# Altium footprint library SMD_BD5.6-L5.6-W5.6-D3.6.PcbLib: 1 footprints
Each footprint in its own frame and in the unit in brackets; x right, y up, seen from the top. Pads: shape width x height; smd on the part's side, far side on the other; paste and mask are expansions set on the pad; w line width, h text height; cw(c..) or ccw(c..) is an arc to the next point about the centre after c.
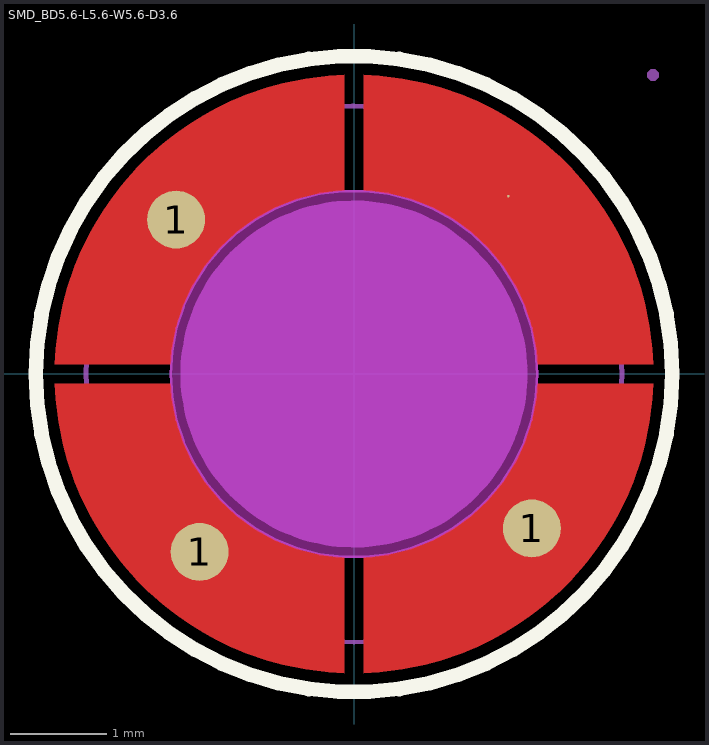
[diagram p0: the footprint, top view; thin cyan lines are the x and y axes]

## SMD_BD5.6-L5.6-W5.6-D3.6 [mm]
pads (4):
  round 0.6 smd: 1(-1.844,1.6) 1(-1.6,-1.844) 1(1.844,-1.6)
  round 0.025 smd: 1(1.6,1.844)
Top Layer:
  region: 0.1,-3.1 0.1,-1.9 0.163,-1.896 0.226,-1.889 0.289,-1.881 0.352,-1.87 0.414,-1.858 0.475,-1.843 0.536,-1.826 0.597,-1.807 0.657,-1.786 0.716,-1.764 0.774,-1.739 0.832,-1.712 0.888,-1.683 0.944,-1.653 0.998,-1.621 1.052,-1.587 1.104,-1.551 1.155,-1.513 1.205,-1.474 1.253,-1.433 1.3,-1.39 1.346,-1.346 1.39,-1.301 1.433,-1.254 1.473,-1.205 1.513,-1.155 1.55,-1.104 1.586,-1.052 1.62,-0.999 1.653,-0.944 1.683,-0.889 1.712,-0.832 1.739,-0.775 1.763,-0.716 1.786,-0.657 1.807,-0.597 1.826,-0.537 1.843,-0.476 1.857,-0.414 1.87,-0.352 1.881,-0.289 1.889,-0.226 1.896,-0.163 1.9,-0.1 3.1,-0.1 3.096,-0.181 3.091,-0.261 3.083,-0.341 3.073,-0.421 3.061,-0.501 3.047,-0.58 3.031,-0.659 3.013,-0.738 2.993,-0.816 2.971,-0.893 2.946,-0.97 2.92,-1.046 2.892,-1.122 2.862,-1.196 2.83,-1.27 2.796,-1.343 2.76,-1.415 2.723,-1.487 2.683,-1.557 2.642,-1.626 2.599,-1.694 2.554,-1.761 2.507,-1.827 2.459,-1.891 2.409,-1.954 2.358,-2.016 2.304,-2.077 2.25,-2.136 2.194,-2.194 2.136,-2.25 2.077,-2.305 2.016,-2.358 1.954,-2.409 1.891,-2.459 1.827,-2.508 1.761,-2.554 1.694,-2.599 1.626,-2.642 1.557,-2.683 1.486,-2.723 1.415,-2.761 1.343,-2.796 1.27,-2.83 1.196,-2.862 1.121,-2.892 1.046,-2.921 0.97,-2.947 0.893,-2.971 0.815,-2.993 0.737,-3.013 0.659,-3.031 0.58,-3.047 0.501,-3.061 0.421,-3.073 0.341,-3.083 0.261,-3.091 0.18,-3.097
  region: -3.1,-0.1 -1.9,-0.1 -1.896,-0.163 -1.889,-0.226 -1.881,-0.289 -1.87,-0.352 -1.858,-0.414 -1.843,-0.475 -1.826,-0.536 -1.807,-0.597 -1.786,-0.657 -1.764,-0.716 -1.739,-0.774 -1.712,-0.832 -1.683,-0.888 -1.653,-0.944 -1.621,-0.999 -1.586,-1.052 -1.551,-1.104 -1.513,-1.155 -1.474,-1.205 -1.433,-1.253 -1.39,-1.3 -1.346,-1.346 -1.301,-1.39 -1.254,-1.433 -1.205,-1.474 -1.155,-1.513 -1.104,-1.55 -1.052,-1.586 -0.999,-1.62 -0.944,-1.653 -0.889,-1.683 -0.832,-1.712 -0.775,-1.739 -0.716,-1.763 -0.657,-1.786 -0.597,-1.807 -0.537,-1.826 -0.476,-1.843 -0.414,-1.857 -0.352,-1.87 -0.289,-1.881 -0.226,-1.889 -0.163,-1.896 -0.1,-1.9 -0.1,-3.1 -0.181,-3.096 -0.261,-3.091 -0.341,-3.083 -0.421,-3.073 -0.501,-3.061 -0.58,-3.047 -0.659,-3.031 -0.738,-3.013 -0.816,-2.993 -0.893,-2.971 -0.97,-2.946 -1.046,-2.92 -1.122,-2.892 -1.196,-2.862 -1.27,-2.83 -1.343,-2.796 -1.415,-2.76 -1.487,-2.723 -1.557,-2.683 -1.626,-2.642 -1.694,-2.599 -1.761,-2.554 -1.827,-2.507 -1.891,-2.459 -1.954,-2.409 -2.016,-2.358 -2.077,-2.304 -2.136,-2.25 -2.194,-2.194 -2.25,-2.136 -2.305,-2.077 -2.358,-2.016 -2.409,-1.954 -2.459,-1.891 -2.508,-1.827 -2.554,-1.761 -2.599,-1.694 -2.642,-1.626 -2.683,-1.557 -2.723,-1.486 -2.761,-1.415 -2.796,-1.343 -2.83,-1.27 -2.862,-1.196 -2.892,-1.121 -2.92,-1.046 -2.947,-0.97 -2.971,-0.893 -2.993,-0.815 -3.013,-0.737 -3.031,-0.659 -3.047,-0.58 -3.061,-0.501 -3.073,-0.421 -3.083,-0.341 -3.091,-0.261 -3.097,-0.18
  region: -0.1,3.1 -0.1,1.9 -0.163,1.896 -0.226,1.889 -0.289,1.881 -0.352,1.87 -0.414,1.857 -0.475,1.843 -0.536,1.826 -0.597,1.807 -0.657,1.786 -0.716,1.763 -0.774,1.739 -0.832,1.712 -0.888,1.683 -0.944,1.653 -0.999,1.62 -1.052,1.586 -1.104,1.55 -1.155,1.513 -1.205,1.474 -1.253,1.433 -1.3,1.39 -1.346,1.346 -1.39,1.3 -1.433,1.253 -1.474,1.205 -1.513,1.155 -1.55,1.104 -1.586,1.052 -1.62,0.999 -1.653,0.944 -1.683,0.888 -1.712,0.832 -1.739,0.774 -1.763,0.716 -1.786,0.657 -1.807,0.597 -1.826,0.537 -1.843,0.475 -1.857,0.414 -1.87,0.352 -1.881,0.289 -1.889,0.226 -1.896,0.163 -1.9,0.1 -3.1,0.1 -3.096,0.18 -3.091,0.261 -3.083,0.341 -3.073,0.421 -3.061,0.501 -3.047,0.58 -3.031,0.659 -3.013,0.737 -2.993,0.815 -2.971,0.893 -2.947,0.97 -2.92,1.046 -2.892,1.121 -2.862,1.196 -2.83,1.27 -2.796,1.343 -2.76,1.415 -2.723,1.487 -2.683,1.557 -2.642,1.626 -2.599,1.694 -2.554,1.761 -2.507,1.827 -2.459,1.891 -2.409,1.954 -2.358,2.016 -2.305,2.077 -2.25,2.136 -2.194,2.194 -2.136,2.25 -2.077,2.305 -2.016,2.358 -1.954,2.409 -1.891,2.459 -1.827,2.507 -1.761,2.554 -1.694,2.599 -1.626,2.642 -1.557,2.683 -1.487,2.723 -1.415,2.76 -1.343,2.796 -1.27,2.83 -1.196,2.862 -1.121,2.892 -1.046,2.92 -0.97,2.947 -0.893,2.971 -0.815,2.993 -0.737,3.013 -0.659,3.031 -0.58,3.047 -0.501,3.061 -0.421,3.073 -0.341,3.083 -0.261,3.091 -0.18,3.096
  region: 3.1,0.1 1.9,0.1 1.896,0.163 1.889,0.226 1.881,0.289 1.87,0.352 1.857,0.414 1.843,0.475 1.826,0.536 1.807,0.597 1.786,0.657 1.763,0.716 1.739,0.774 1.712,0.832 1.683,0.888 1.653,0.944 1.62,0.999 1.586,1.052 1.55,1.104 1.513,1.155 1.474,1.205 1.433,1.253 1.39,1.3 1.346,1.346 1.3,1.39 1.253,1.433 1.205,1.474 1.155,1.513 1.104,1.55 1.052,1.586 0.999,1.62 0.944,1.653 0.888,1.683 0.832,1.712 0.774,1.739 0.716,1.763 0.657,1.786 0.597,1.807 0.536,1.826 0.475,1.843 0.414,1.857 0.352,1.87 0.289,1.881 0.226,1.889 0.163,1.896 0.1,1.9 0.1,3.1 0.18,3.096 0.261,3.091 0.341,3.083 0.421,3.073 0.501,3.061 0.58,3.047 0.659,3.031 0.737,3.013 0.815,2.993 0.893,2.971 0.97,2.946 1.046,2.92 1.121,2.892 1.196,2.862 1.27,2.83 1.343,2.796 1.415,2.76 1.486,2.723 1.557,2.683 1.626,2.642 1.694,2.599 1.761,2.554 1.827,2.507 1.891,2.459 1.954,2.409 2.016,2.358 2.077,2.304 2.136,2.25 2.194,2.194 2.25,2.136 2.304,2.077 2.358,2.016 2.409,1.954 2.459,1.891 2.507,1.827 2.554,1.761 2.599,1.694 2.642,1.626 2.683,1.557 2.723,1.486 2.76,1.415 2.796,1.343 2.83,1.27 2.862,1.196 2.892,1.121 2.92,1.046 2.946,0.97 2.971,0.893 2.993,0.815 3.013,0.737 3.031,0.659 3.047,0.58 3.061,0.501 3.073,0.421 3.083,0.341 3.091,0.261 3.096,0.18
  region: 1.6,1.544 1.57,1.544 1.512,1.556 1.458,1.578 1.409,1.611 1.367,1.653 1.334,1.702 1.311,1.757 1.3,1.814 1.3,1.844 1.3,1.874 1.311,1.932 1.334,1.986 1.367,2.035 1.409,2.077 1.458,2.11 1.512,2.132 1.57,2.144 1.6,2.144 1.629,2.144 1.687,2.132 1.742,2.11 1.791,2.077 1.833,2.035 1.866,1.986 1.888,1.932 1.9,1.874 1.9,1.844 1.9,1.814 1.888,1.757 1.866,1.702 1.833,1.653 1.791,1.611 1.742,1.578 1.687,1.556 1.629,1.544
Top Overlay:
  circle w0.152: c0,0 r3.298
Top Paste:
  drawing of 4 lines, arcs and shapes, not listed
Keep-Out Layer:
  board cut-out: 1.9,0 1.9,-0.187 1.827,-0.554 1.684,-0.9 1.476,-1.211 1.211,-1.476 0.9,-1.684 0.554,-1.827 0.187,-1.9 -0.187,-1.9 -0.554,-1.827 -0.9,-1.684 -1.211,-1.476 -1.476,-1.211 -1.684,-0.9 -1.827,-0.554 -1.9,-0.187 -1.9,0 -1.9,0.187 -1.827,0.554 -1.684,0.9 -1.476,1.211 -1.211,1.476 -0.9,1.684 -0.554,1.827 -0.187,1.9 0.187,1.9 0.554,1.827 0.9,1.684 1.211,1.476 1.476,1.211 1.684,0.9 1.827,0.554 1.9,0.187 1.9,0
Keep-Out Layer:
  circle w0.025: c0,0 r1.9
  region: 1.9,0 1.9,-0.187 1.827,-0.554 1.684,-0.9 1.476,-1.211 1.211,-1.476 0.9,-1.684 0.554,-1.827 0.187,-1.9 -0.187,-1.9 -0.554,-1.827 -0.9,-1.684 -1.211,-1.476 -1.476,-1.211 -1.684,-0.9 -1.827,-0.554 -1.9,-0.187 -1.9,0 -1.9,0.187 -1.827,0.554 -1.684,0.9 -1.476,1.211 -1.211,1.476 -0.9,1.684 -0.554,1.827 -0.187,1.9 0.187,1.9 0.554,1.827 0.9,1.684 1.211,1.476 1.476,1.211 1.684,0.9 1.827,0.554 1.9,0.187 1.9,0
Mechanical 1:
  circle w0.025: c0,0 r1.9
Mechanical 6:
  circle w1.8: c0,0 r0.9
Mechanical 15:
  region: 3.16,3.1 3.16,3.075 3.125,3.04 3.075,3.04 3.04,3.075 3.04,3.1 3.04,3.125 3.075,3.16 3.125,3.16 3.16,3.125 3.16,3.1
  lines w0.051: -2.778,-0.002 ccw(c0,-0.002) 0,-2.78 0.001,-2.78 ccw(c0.001,-0.002) 2.78,-0.002 2.78,-0.001 ccw(c0.001,-0.001) 0.001,2.778 -0.017,2.779 ccw(c-0.017,0.017) -2.778,0.017 -2.778,-0.002